# Altium schematic symbol library Instrument_Design.SCHLIB: 38 symbols
Pins are listed as number, name and electrical type; pins without a type are passive.

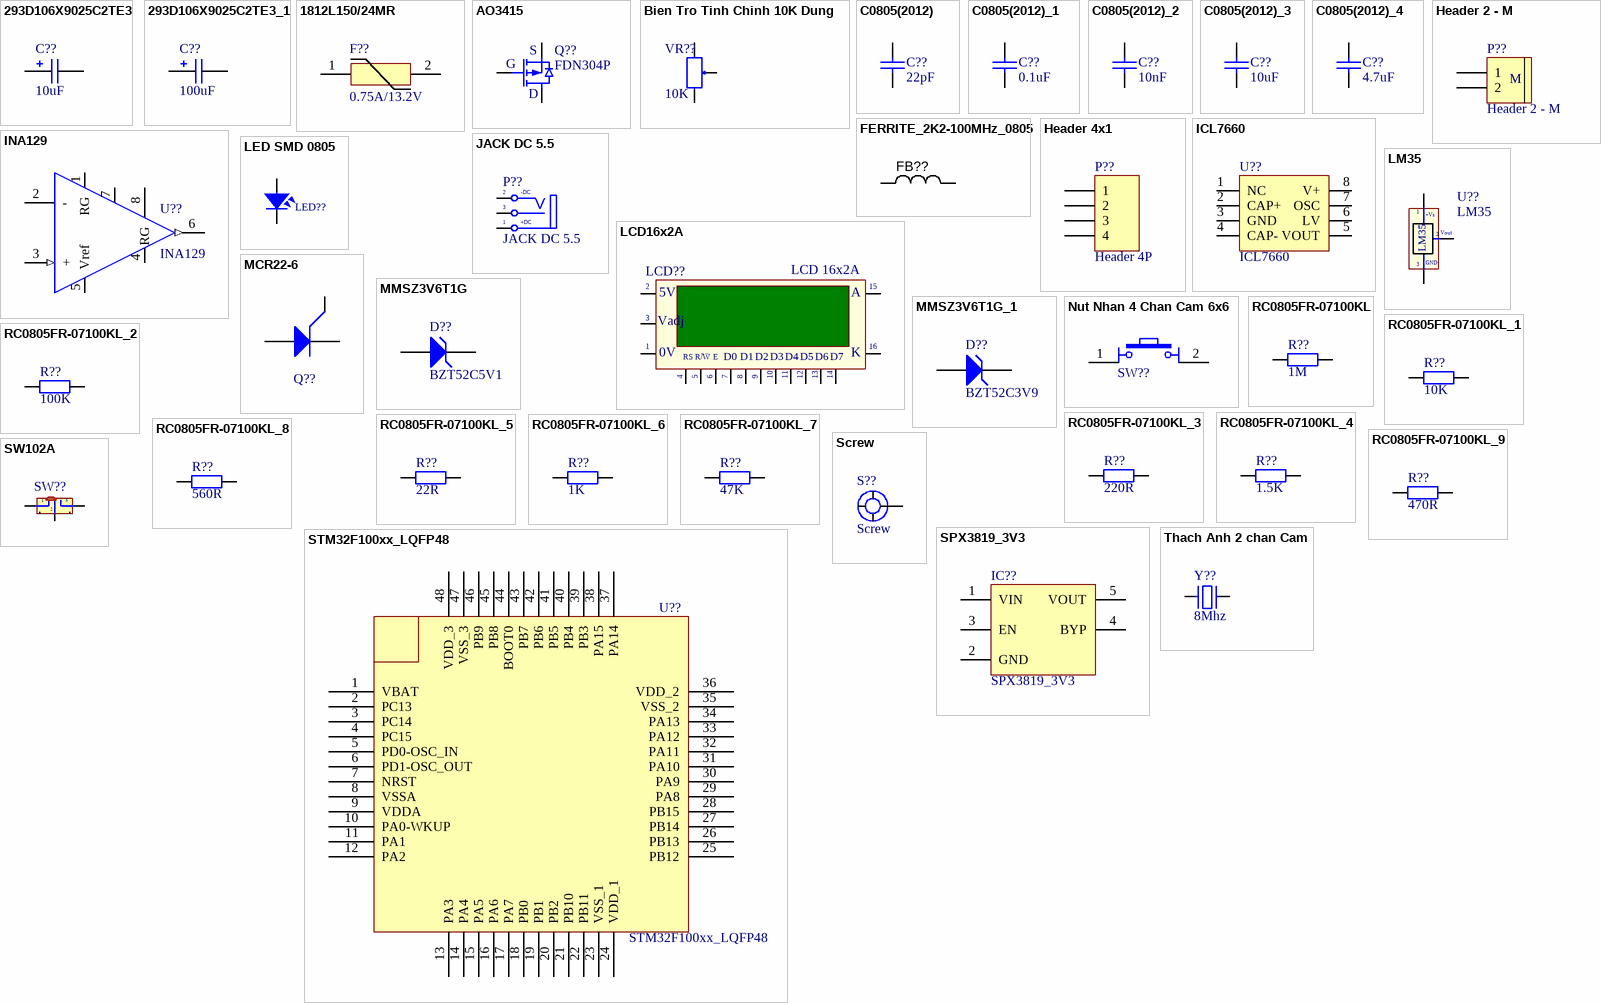
[diagram p0: symbols 293D106X9025C2TE3 to Thach Anh 2 chan Cam]

## 293D106X9025C2TE3
designator C??, comment 10uF
CAP TANT 10uF 25V 10% 2312; MPN: 293D106X9025C2TE3;T491C106K025AT7280; CompanyID: VT-00020; Solder: SMT; Value: 106/25V; Category: CAPACITOR; PinCount: 2
footprint CAP_TANTAL_2312(6032) (Chip Resistor, Body 6.0x3.2mm, IPC High Density)
pins: 1, 2

## 293D106X9025C2TE3_1
designator C??, comment 100uF
CAP TANT 10uF 25V 10% 2312; MPN: 293D106X9025C2TE3;T491C106K025AT7280; CompanyID: VT-00020; Solder: SMT; Value: 106/25V; Category: CAPACITOR; PinCount: 2
footprint CAP_TANTAL_2312(6032) (Chip Resistor, Body 6.0x3.2mm, IPC High Density)
pins: 1, 2

## 1812L150/24MR
designator F??, comment 0.75A/13.2V
FUSE PTC RESETTABLE 24V 1.50A 1812L; MPN: 1812L150/24MR; Solder: SMT; Value: 24V/1.5A; CompanyID: VT-00870
footprint FUSE_1812(4532)
pins: 1, 2

## AO3415
designator Q??, comment FDN304P
MOSFET P-CH 20V 4A SOT23; MPN: AO3415; MFR: Alpha & Omega Semiconductor Inc.; Value: 20V/4A; Solder: SMT
footprint SOT23_3 (SOT23, 3-Leads, Body 2,90x2,30mm, Pitch 0,95mm, IPC Medium Density)
pins: 1 G, 2 S, 3 D

## Bien Tro Tinh Chinh 10K Dung
designator VR??, comment 10K
Cắm; Ma_Hang: MH003232; Ten_Linh_Kien: Biến Trở VR 103-10K 3296W; Don_Vi: Con; Kieu_Chan: *; Chung_Loai: Cắm; Ghi_Chu: *
footprint Bien Tro Vi Chinh Dung (Bien tro vi chinh)
pins: 1, 2, 3

## C0805(2012)
designator C??, comment 22pF
Capacitor SMD 0805(2012); Value: 33p; Published: 8-Jun-2000; LatestRevisionDate: 17-Jul-2002; LatestRevisionNote: Re-released for DXP Platform.; PackageReference: RAD-0.3; Publisher: Altium Limited
footprint CAPC-0805 (2012) (Resistor, Chip; 2.00 mm L X 1.25 mm W X 0.70 mm H body)
pins: 1, 2

## C0805(2012)_1
designator C??, comment 0.1uF
Capacitor SMD 0805(2012); Value: 33p; Published: 8-Jun-2000; LatestRevisionDate: 17-Jul-2002; LatestRevisionNote: Re-released for DXP Platform.; PackageReference: RAD-0.3; Publisher: Altium Limited
footprint CAPC-0805 (2012) (Resistor, Chip; 2.00 mm L X 1.25 mm W X 0.70 mm H body)
pins: 1, 2

## C0805(2012)_2
designator C??, comment 10nF
Capacitor SMD 0805(2012); Value: 33p; Published: 8-Jun-2000; LatestRevisionDate: 17-Jul-2002; LatestRevisionNote: Re-released for DXP Platform.; PackageReference: RAD-0.3; Publisher: Altium Limited
footprint CAPC-0805 (2012) (Resistor, Chip; 2.00 mm L X 1.25 mm W X 0.70 mm H body)
pins: 1, 2

## C0805(2012)_3
designator C??, comment 10uF
Capacitor SMD 0805(2012); Value: 33p; Published: 8-Jun-2000; LatestRevisionDate: 17-Jul-2002; LatestRevisionNote: Re-released for DXP Platform.; PackageReference: RAD-0.3; Publisher: Altium Limited
footprint CAPC-0805 (2012) (Resistor, Chip; 2.00 mm L X 1.25 mm W X 0.70 mm H body)
pins: 1, 2

## C0805(2012)_4
designator C??, comment 4.7uF
Capacitor SMD 0805(2012); Value: 33p; Published: 8-Jun-2000; LatestRevisionDate: 17-Jul-2002; LatestRevisionNote: Re-released for DXP Platform.; PackageReference: RAD-0.3; Publisher: Altium Limited
footprint CAPC-0805 (2012) (Resistor, Chip; 2.00 mm L X 1.25 mm W X 0.70 mm H body)
pins: 1, 2

## FERRITE_2K2-100MHz_0805
designator FB??
Ferrite bead 2.2K Ohm at 100 MHz 200mA 0805 SMD; Manufacturer 1: Laird-Signal Integrity Products; Ratings: 200 mA; 800 mOhm DC; Impedance @ Frequency: 600 Ohm @ 100MHz; DC Resistance (DCR): 800 mOhm Max; Filter Type: Differential Mode - Single; SCDType: source; Size / Dimension: 0.063" L x 0.031" W (1.60mm x 0.80mm); Current Rating: 200mA; Package / Case: 0805 (2012 Metric); Height (Max): 0.043" (1.09mm); ComponentLink1URL: http://www.lairdtech.com/WorkArea/linkit.aspx?LinkIdentifier=id&ItemID=4879; ComponentLink1Description: http://www.lairdtech.com/WorkArea/linkit.aspx?LinkIdentifier=id&ItemID=4879; Supplier 1: Digi-Key; Supplier Part Number 1: 240-2562-1-ND; Mounting Type: Surface Mount
footprint FBC2012N (Ferrite Bead Chip, Body 2.0x1.2mm, 0805, IPC Medium Density)
pins: 1, 2

## Header 2 - M
designator P??
Header, 2-Pin, Medium; LatestRevisionDate: 17-Jul-2002; LatestRevisionNote: Re-released for DXP Platform.; Publisher: Altium Limited
footprint Medium - Header 2
signal-integrity model Connector
pins: 1, 2
text: M

## Header 4x1
designator P??, comment Header 4P
Header, 4 Pin Pitch 2.54mm; MPN: S1012EC-40-ND; CompanyID: VT-00125; Solder: WAVE; Value: Header 4P
footprint HDR1X4 (Connector; Header; 4 Position)
pins: 1, 2, 3, 4

## ICL7660
designator U??
CMOS Voltage Converters; Creator: Nguyen Ba Bien
footprint SOIC-8
pins: 1 NC, 2 CAP+, 3 GND, 4 CAP-, 5 VOUT, 6 LV, 7 OSC, 8 V+

## INA129
designator U??
IC INST AMP 1 CIRCUIT 8SOIC; MPN: INA129UA/2K5; MFR: TI; Solder: SMT; Value: INA129; Category: IC; PinCount: 8
footprint SOIC-8
pins: 1 RG, 2 -, 3 + (in), 4 V-, 5 Vref, 6 Vout (out), 7 V+, 8 RG

## JACK DC 5.5
designator P??
Value: Jac DC
footprint JACK DC 5.5 (Jac DC input)
pins: 1 T "Tip", 2 TN "Tip Normal (Break Contact)", 3 S (power) "Sleeve (Ground)"
text: -DC; +DC

## LCD16x2A
designator LCD??, comment LCD 16x2A
LCD dipslay 16 char, 2 line; Value: LCD16x2A
footprint LCD16X2 (LCD dipslay 16x2, 16 pin)
footprint LCD16X2N (LCD dipslay 16x2, 16 pin)
pins: 1 GND, 2 VDD, 3 VAdj, 4 RS, 5 R/~{W}, 6 ~{EN}, 7 D0, 8 D1, 9 D2, 10 D3, 11 D4, 12 D5, 13 D6, 14 D7, 15 A, 16 K
text: 5V; Vadj; |; 0V; R/W; E

## LED SMD 0805
designator LED??, comment LED SMD  (value not drawn)
footprint SM-LED-0805-Blue
footprint SM-LED-0805-Green
footprint SM-LED-0805-Orange
footprint SM-LED-0805-Red
footprint SM-LED-0805-Yellow
footprint LED_SMD_B
footprint LED_SMD_G
pins: 1, 2

## LM35
designator U??
Teminal; Value: LM35
footprint QTO-92 (TO-92)
pins: 1 +Vs, 2 Vout, 3 -
text: GND

## MCR22-6
designator Q??  (value not drawn)
footprint TO-92
pins: 1 K, 2 G, 3 A

## MMSZ3V6T1G
designator D??, comment BZT52C5V1
DIODE ZENER 3.6V 500MW SOD123; MPN: MMSZ3V6T1G; MFR: ON; Solder: SMT; Value: 3.6V
footprint SOD-123 (SOD123, 2-Leads, Body 2.6x1.6mm, Pitch 3.05mm, IPC High Density)
pins: 1 A, 2 K

## MMSZ3V6T1G_1
designator D??, comment BZT52C3V9
DIODE ZENER 3.6V 500MW SOD123; MPN: MMSZ3V6T1G; MFR: ON; Solder: SMT; Value: 3.6V
footprint SOD-123 (SOD123, 2-Leads, Body 2.6x1.6mm, Pitch 3.05mm, IPC High Density)
pins: 1 A, 2 K

## Nut Nhan 4 Chan Cam 6x6
designator SW??  (value not drawn)
Nut Nhan 4 Chan 6x6mm; Ten: Nút Nhấn 4 Chân 6x6x5MM DIP; Ma_Hang: MH004584
footprint Nut Nhan 4 Chan Cam 6x6 (Footprint not found)
pins: 1, 2

## RC0805FR-07100KL
designator R??, comment 1M
RES SMD 100K OHM 1% 1/8W 0805; MPN: RC0805FR-07100KL; Solder: SMT; CompanyID: VT-00006; Value: 100K; Category: RESISTOR
footprint RESC-0805 (2012) (Resistor, Chip; 2.00 mm L X 1.25 mm W X 0.70 mm H body)
pins: 1, 2

## RC0805FR-07100KL_1
designator R??, comment 10K
RES SMD 100K OHM 1% 1/8W 0805; MPN: RC0805FR-07100KL; Solder: SMT; CompanyID: VT-00006; Value: 100K; Category: RESISTOR
footprint RESC-0805 (2012) (Resistor, Chip; 2.00 mm L X 1.25 mm W X 0.70 mm H body)
pins: 1, 2

## RC0805FR-07100KL_2
designator R??, comment 100K
RES SMD 100K OHM 1% 1/8W 0805; MPN: RC0805FR-07100KL; Solder: SMT; CompanyID: VT-00006; Value: 100K; Category: RESISTOR
footprint RESC-0805 (2012) (Resistor, Chip; 2.00 mm L X 1.25 mm W X 0.70 mm H body)
pins: 1, 2

## RC0805FR-07100KL_3
designator R??, comment 220R
RES SMD 100K OHM 1% 1/8W 0805; MPN: RC0805FR-07100KL; Solder: SMT; CompanyID: VT-00006; Value: 100K; Category: RESISTOR
footprint RESC-0805 (2012) (Resistor, Chip; 2.00 mm L X 1.25 mm W X 0.70 mm H body)
pins: 1, 2

## RC0805FR-07100KL_4
designator R??, comment 1.5K
RES SMD 100K OHM 1% 1/8W 0805; MPN: RC0805FR-07100KL; Solder: SMT; CompanyID: VT-00006; Value: 100K; Category: RESISTOR
footprint RESC-0805 (2012) (Resistor, Chip; 2.00 mm L X 1.25 mm W X 0.70 mm H body)
pins: 1, 2

## RC0805FR-07100KL_5
designator R??, comment 22R
RES SMD 100K OHM 1% 1/8W 0805; MPN: RC0805FR-07100KL; Solder: SMT; CompanyID: VT-00006; Value: 100K; Category: RESISTOR
footprint RESC-0805 (2012) (Resistor, Chip; 2.00 mm L X 1.25 mm W X 0.70 mm H body)
pins: 1, 2

## RC0805FR-07100KL_6
designator R??, comment 1K
RES SMD 100K OHM 1% 1/8W 0805; MPN: RC0805FR-07100KL; Solder: SMT; CompanyID: VT-00006; Value: 100K; Category: RESISTOR
footprint RESC-0805 (2012) (Resistor, Chip; 2.00 mm L X 1.25 mm W X 0.70 mm H body)
pins: 1, 2

## RC0805FR-07100KL_7
designator R??, comment 47K
RES SMD 100K OHM 1% 1/8W 0805; MPN: RC0805FR-07100KL; Solder: SMT; CompanyID: VT-00006; Value: 100K; Category: RESISTOR
footprint RESC-0805 (2012) (Resistor, Chip; 2.00 mm L X 1.25 mm W X 0.70 mm H body)
pins: 1, 2

## RC0805FR-07100KL_8
designator R??, comment 560R
RES SMD 100K OHM 1% 1/8W 0805; MPN: RC0805FR-07100KL; Solder: SMT; CompanyID: VT-00006; Value: 100K; Category: RESISTOR
footprint RESC-0805 (2012) (Resistor, Chip; 2.00 mm L X 1.25 mm W X 0.70 mm H body)
pins: 1, 2

## RC0805FR-07100KL_9
designator R??, comment 470R
RES SMD 100K OHM 1% 1/8W 0805; MPN: RC0805FR-07100KL; Solder: SMT; CompanyID: VT-00006; Value: 100K; Category: RESISTOR
footprint RESC-0805 (2012) (Resistor, Chip; 2.00 mm L X 1.25 mm W X 0.70 mm H body)
pins: 1, 2

## Screw
designator S??
footprint Screw 3 small (Hole 3mm, outline 5mm)
pins: 1

## SPX3819_3V3
designator IC??
footprint SOT23-5
pins: 1 VIN, 2 GND, 3 EN, 4 BYP, 5 VOUT

## STM32F100xx_LQFP48
designator U??
footprint STM32_LQPF48
pins: 1 VBAT, 2 PC13, 3 PC14, 4 PC15, 5 PD0-OSC_IN, 6 PD1-OSC_OUT, 7 NRST, 8 VSSA, 9 VDDA, 10 PA0-WKUP, 11 PA1, 12 PA2, 13 PA3, 14 PA4, 15 PA5, 16 PA6, 17 PA7, 18 PB0, 19 PB1, 20 PB2, 21 PB10, 22 PB11, 23 VSS_1, 24 VDD_1, 25 PB12, 26 PB13, 27 PB14, 28 PB15, 29 PA8, 30 PA9, 31 PA10, 32 PA11, 33 PA12, 34 PA13, 35 VSS_2, 36 VDD_2, 37 PA14, 38 PA15, 39 PB3, 40 PB4, 41 PB5, 42 PB6, 43 PB7, 44 BOOT0, 45 PB8, 46 PB9, 47 VSS_3, 48 VDD_3

## SW102A
designator SW??, comment SS-12F44  (value not drawn)
Switch 102 on Broad; Value: Switch 102 On Board
footprint SW102 (Switch 102 On Board nho)
footprint SW102T (Switch 102 On Board To)
pins: 1, 2, 3, 4, 5

## Thach Anh 2 chan Cam
designator Y??, comment 8Mhz
Crystal For all Crystal 2pin.; Value: 4Mhz
footprint Thach Anh 2 chan cam
pins: 1, 2